# Altium footprint library RUssery.PcbLib: 36 footprints (part 2 of 3)
Each footprint in its own frame and in the unit in brackets; x right, y up, seen from the top. Pads: shape width x height; smd on the part's side, far side on the other; paste and mask are expansions set on the pad; w line width, h text height; cw(c..) or ccw(c..) is an arc to the next point about the centre after c.
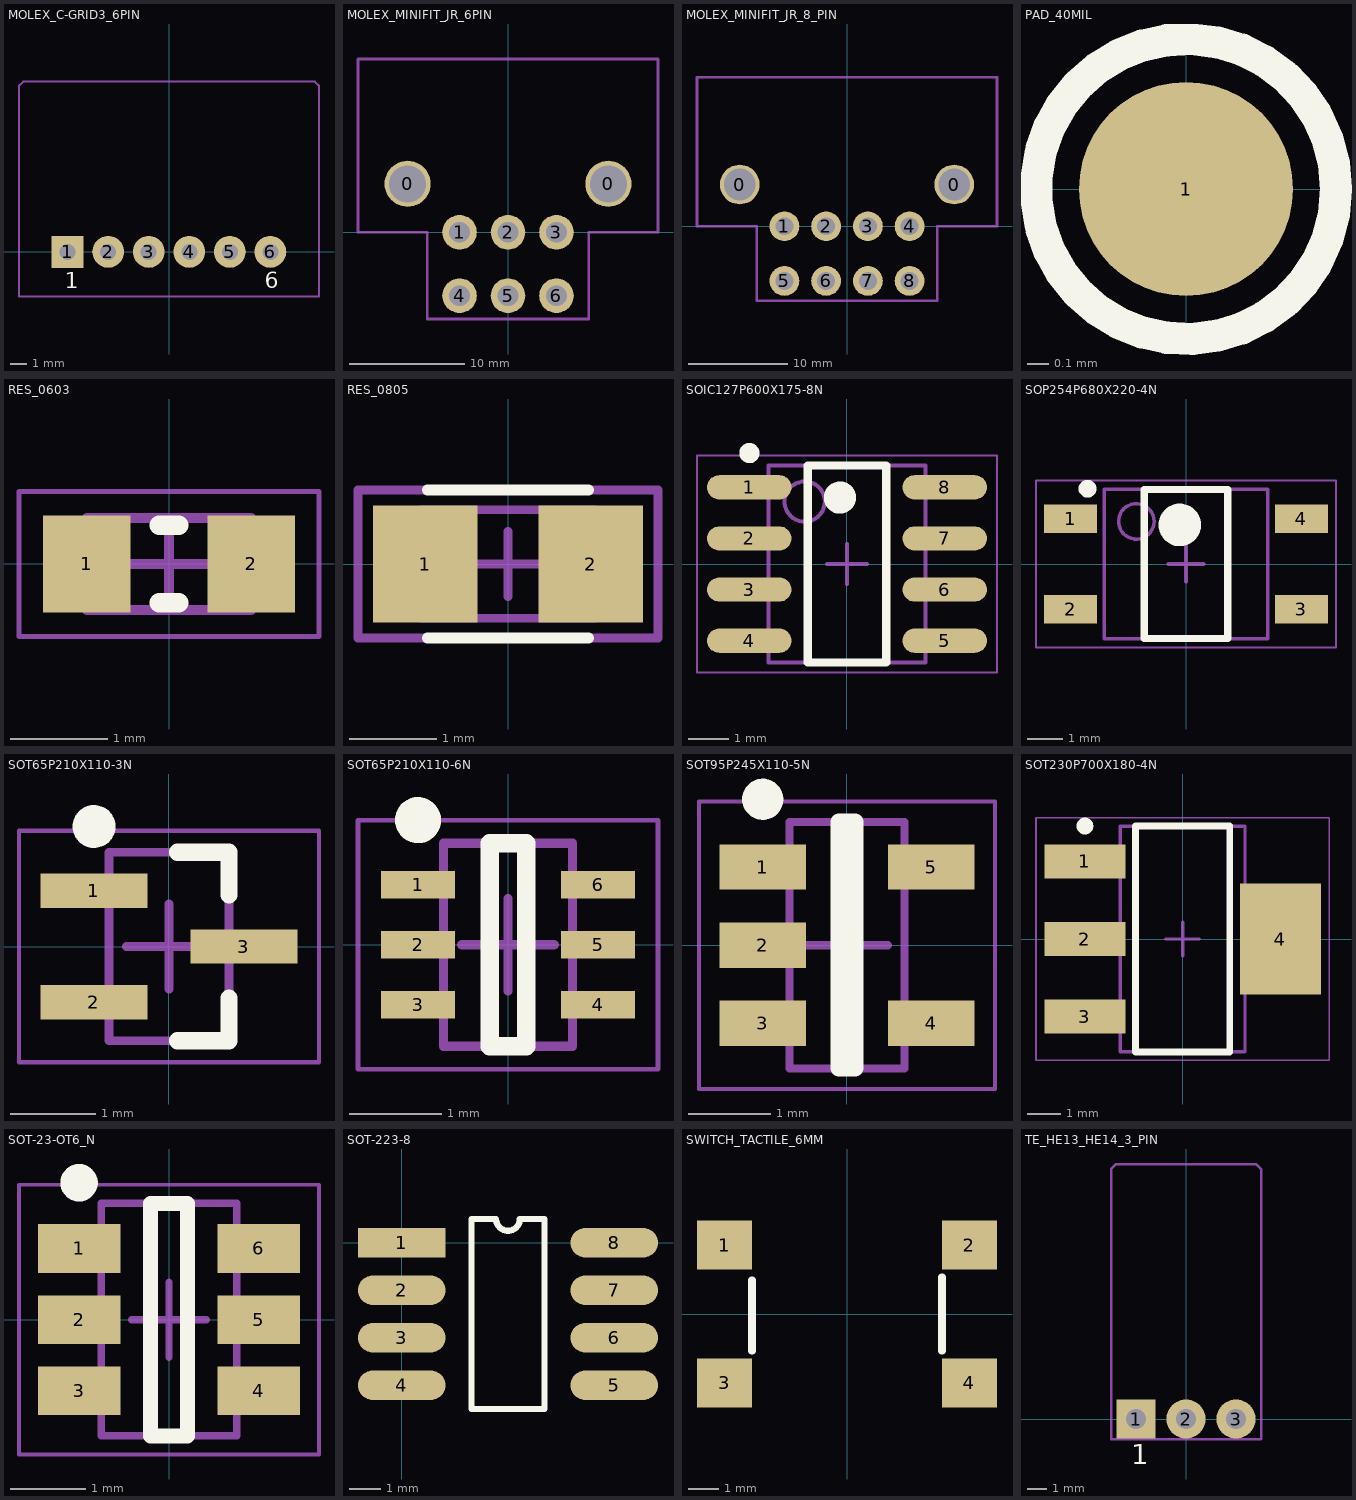
[diagram p1: the footprints below, top view; thin cyan lines are the x and y axes]

## MOLEX_C-GRID3_6PIN [mm]
pads (6):
  rect 2x2 hole 1: 1(-6.35,0)
  round 2 hole 1: 2(-3.81,0) 3(-1.27,0) 4(1.27,0) 5(3.81,0) 6(6.35,0)
Top Overlay:
  text "6" at 6.011,-2.286 h1.02
  text "1" at -6.519,-2.286 h1.02
Mechanical 15:
  lines w0.127: -9.398,-2.794 9.398,-2.794 9.398,10.414 9.144,10.668 -9.144,10.668 -9.398,10.414 -9.398,-2.794
3D body "901362106.stp": height 7.23, standoff -2.88, extent -9.295,-2.635 9.295,10.505

## MOLEX_MINIFIT_JR_6PIN [mm]
pads (8):
  round 4 hole 3.2: 0(-8.7,4.2) 0(8.7,4.2)
  round 3 hole 1.8: 1(-4.2,0) 2(0,0) 3(4.2,0) 4(-4.2,-5.5) 5(0,-5.5) 6(4.2,-5.5)
Mechanical 15:
  lines w0.254: -13,0 -7,0 -7,-7.5 7,-7.5 7,0 13,0 13,15 -13,15 -13,0
3D body "039291068.stp": height 11.02, standoff -3.88, extent -11.9,-5.95 11.9,13.95

## MOLEX_MINIFIT_JR_8_PIN [mm]
pads (10):
  round 4 hole 3.2: 0(-10.8,4.2) 0(10.8,4.2)
  round 3 hole 1.8: 1(-6.3,0) 2(-2.1,0) 3(2.1,0) 4(6.3,0) 5(-6.3,-5.5) 6(-2.1,-5.5) 7(2.1,-5.5) 8(6.3,-5.5)
Mechanical 15:
  lines w0.254: -15.1,0 -9.1,0 -9.1,-7.5 9.1,-7.5 9.1,0 15.1,0 15.1,15 -15.1,15 -15.1,0
3D body "039291088.stp": height 11.02, standoff -3.88, extent -14.025,-5.975 13.975,13.925

## PAD_40MIL [mm]
pads (1):
  round 1 smd paste-4 mask+0.076: 1(0,0)
Top Overlay:
  circle w0.15: c0,0 r0.7

## RES_0603 [mm] "Chip Resistor, 2-Leads, Body 1.60x0.82mm, IPC Medium Density"
height 0.6
pads (2):
  rect 0.9x1 smd: 1(-0.85,0) 2(0.85,0)
Top Overlay:
  lines w0.2: -0.1,-0.4 0.1,-0.4 ; -0.1,0.4 0.1,0.4
Mechanical 13:
  lines w0.1: -0.85,-0.475 -0.85,0.475 0.85,0.475 0.85,-0.475 -0.85,-0.475
Mechanical 15:
  lines w0.05: -1.55,-0.75 -1.55,0.75 1.55,0.75 1.55,-0.75 -1.55,-0.75
  lines w0.1: -0.475,0 0.475,0 ; 0,-0.475 0,0.475
3D body: height 0.6, standoff 0, extent -0.57,-0.475 0.57,0.475
3D body: height 0.6, standoff 0, extent -0.85,-0.475 -0.57,0.475
3D body: height 0.6, standoff 0, extent 0.57,-0.475 0.85,0.475

## RES_0805 [mm]
pads (2):
  rect 1.2x1.35 smd mask+0.076: 1(-0.95,0) 2(0.95,0)
Top Overlay:
  lines w0.127: -0.925,-0.85 0.925,-0.85 ; -0.925,0.85 0.925,0.85
Mechanical 13:
  lines w0.1: -1,-0.625 1,-0.625 1,0.625 -1,0.625 -1,-0.625
Mechanical 15:
  lines w0.102: -0.35,0 0.375,0 ; 0,-0.375 0,0.375 ; -1.725,-0.85 1.725,-0.85 1.725,0.85 -1.725,0.85 -1.725,-0.85
3D body "RESISTOR_0805.step": height 0.58, standoff -0.02, extent -1,-0.625 1,0.625

## SOIC127P600X175-8N [mm]
pads (8):
  oval 2.1x0.6 smd: 1(-2.425,1.905) 2(-2.425,0.635) 3(-2.425,-0.635) 4(-2.425,-1.905) 5(2.425,-1.905) 6(2.425,-0.635) 7(2.425,0.635) 8(2.425,1.905)
Top Overlay:
  circle w0.4: c-0.175,1.65 r0.2
  circle w0.25: c-2.425,2.755 r0.125
  lines w0.2: -0.975,-2.45 0.975,-2.45 0.975,2.45 -0.975,2.45 -0.975,-2.45
Mechanical 13:
  circle w0.1: c-1.05,1.55 r0.5
  lines w0.1: -1.95,-2.45 1.95,-2.45 1.95,2.45 -1.95,2.45 -1.95,-2.45
Mechanical 15:
  lines w0.05: -3.725,-2.7 3.725,-2.7 3.725,2.7 -3.725,2.7 -3.725,-2.7
  lines w0.1: -0.5,0 0.5,0 ; 0,-0.5 0,0.5
3D body: height 1.75, standoff 0.25, extent -1.95,-2.45 1.95,2.45

## SOP254P680X220-4N [mm] "SOP, 4-Leads, Body 3.85x4.40mm, Pitch 2.54mm, IPC Medium Density"
height 2.2
pads (4):
  rect 1.5x0.8 smd: 1(-3.25,1.27) 2(-3.25,-1.27) 3(3.25,-1.27) 4(3.25,1.27)
Top Overlay:
  circle w0.6: c-0.175,1.1 r0.3
  circle w0.25: c-2.775,2.12 r0.125
  lines w0.2: -1.175,-2.1 1.175,-2.1 1.175,2.1 -1.175,2.1 -1.175,-2.1
Mechanical 13:
  circle w0.1: c-1.4,1.2 r0.5
  lines w0.1: -2.3,-2.1 2.3,-2.1 2.3,2.1 -2.3,2.1 -2.3,-2.1
Mechanical 15:
  lines w0.05: -4.225,-2.35 4.225,-2.35 4.225,2.35 -4.225,2.35 -4.225,-2.35
  lines w0.1: -0.5,0 0.5,0 ; 0,-0.5 0,0.5
3D body: height 2.2, standoff 0.1, extent -2.3,-2.1 2.3,2.1

## SOT65P210X110-3N [mm] "SOT23, 3-Leads, Body 2.00x2.10mm, Pitch 0.65mm, IPC Medium Density"
height 1.1
pads (3):
  rect 1.25x0.4 smd: 1(-0.875,0.65) 2(-0.875,-0.65) 3(0.875,0)
Top Overlay:
  circle w0.25: c-0.875,1.4 r0.125
  lines w0.2: 0.1,-1.1 0.7,-1.1 0.7,-0.6 ; 0.1,1.1 0.7,1.1 0.7,0.6
Mechanical 13:
  lines w0.1: -0.7,-1.1 0.7,-1.1 0.7,1.1 -0.7,1.1 -0.7,-1.1
Mechanical 15:
  lines w0.05: -1.75,-1.35 1.75,-1.35 1.75,1.35 -1.75,1.35 -1.75,-1.35
  lines w0.1: -0.5,0 0.5,0 ; 0,-0.5 0,0.5
3D body: height 1.1, standoff 0.1, extent -0.7,-1.1 0.7,1.1

## SOT65P210X110-6N [mm] "SOT23, 6-Leads, Body 2.00x2.10mm, Pitch 0.65mm, IPC Medium Density"
height 1.1
pads (6):
  rect 0.8x0.3 smd: 1(-0.975,0.65) 2(-0.975,0) 3(-0.975,-0.65) 4(0.975,-0.65) 5(0.975,0) 6(0.975,0.65)
Top Overlay:
  circle w0.25: c-0.975,1.35 r0.125
  lines w0.2: -0.2,-1.1 -0.2,1.1 0.2,1.1 0.2,-1.1 -0.2,-1.1
Mechanical 13:
  lines w0.1: -0.7,-1.1 0.7,-1.1 0.7,1.1 -0.7,1.1 -0.7,-1.1
Mechanical 15:
  lines w0.05: -1.625,-1.35 1.625,-1.35 1.625,1.35 -1.625,1.35 -1.625,-1.35
  lines w0.1: -0.5,0 0.5,0 ; 0,-0.5 0,0.5
3D body: height 1.1, standoff 0.1, extent -0.7,-1.1 0.7,1.1

## SOT95P245X110-5N [mm]
pads (5):
  rect 1.05x0.55 smd: 1(-1.025,0.95) 2(-1.025,0) 3(-1.025,-0.95) 4(1.025,-0.95) 5(1.025,0.95)
Top Overlay:
  circle w0.25: c-1.025,1.775 r0.125
  lines w0.2: -0.1,-1.5 -0.1,1.5 0.1,1.5 0.1,-1.5 -0.1,-1.5
Mechanical 13:
  lines w0.1: -0.7,-1.5 0.7,-1.5 0.7,1.5 -0.7,1.5 -0.7,-1.5
Mechanical 15:
  lines w0.05: -1.8,-1.75 1.8,-1.75 1.8,1.75 -1.8,1.75 -1.8,-1.75
  lines w0.1: -0.5,0 0.5,0 ; 0,-0.5 0,0.5
3D body: height 1.1, standoff 0.05, extent -0.7,-1.5 0.7,1.5

## SOT230P700X180-4N [mm] "SOT223, 4-Leads, Body 6.50x7.00mm (avg), Pitch 2.30mm, IPC Medium Density"
height 1.8
pads (4):
  rect 2.4x1 smd: 1(-2.9,2.3) 2(-2.9,0) 3(-2.9,-2.3)
  rect 2.4x3.3 smd: 4(2.9,0)
Top Overlay:
  circle w0.25: c-2.9,3.35 r0.125
  lines w0.2: -1.4,-3.35 1.4,-3.35 1.4,3.35 -1.4,3.35 -1.4,-3.35
Mechanical 13:
  lines w0.1: -1.85,-3.35 1.85,-3.35 1.85,3.35 -1.85,3.35 -1.85,-3.35
Mechanical 15:
  lines w0.05: -4.35,-3.6 4.35,-3.6 4.35,3.6 -4.35,3.6 -4.35,-3.6
  lines w0.1: -0.5,0 0.5,0 ; 0,-0.5 0,0.5
3D body: height 1.8, standoff 0.02, extent -1.85,-3.35 1.85,3.35

## SOT-23-OT6_N [mm] "SOT23, 6-Leads, Body 2.9x1.7mm, Pitch 0.95mm, Lead Span 2.8mm, IPC Medium Density"
height 1.45
pads (6):
  rect 1.1x0.65 smd: 1(-1.2,0.95) 2(-1.2,0) 3(-1.2,-0.95) 4(1.2,-0.95) 5(1.2,0) 6(1.2,0.95)
Top Overlay:
  circle w0.25: c-1.2,1.825 r0.125
  lines w0.2: -0.25,-1.55 0.25,-1.55 0.25,1.55 -0.25,1.55 -0.25,-1.55
Mechanical 13:
  lines w0.1: -0.9,-1.55 -0.9,1.55 0.9,1.55 0.9,-1.55 -0.9,-1.55
Mechanical 15:
  lines w0.05: -2,-1.8 -2,1.8 2,1.8 2,-1.8 -2,-1.8
  lines w0.1: -0.5,0 0.5,0 ; 0,-0.5 0,0.5
3D body: height 1.45, standoff 0, extent -0.9,-1.55 0.9,1.55

## SOT-223-8 [mm]
pads (8):
  rect 2.8x0.95 smd: 1(0,0)
  oval 2.8x0.95 smd: 2(0,-1.52) 3(0,-3.04) 4(0,-4.56) 5(6.8,-4.56) 6(6.8,-3.04) 7(6.8,-1.52) 8(6.8,0)
Top Overlay:
  lines w0.2: 2.235,-5.32 4.565,-5.32 4.565,0.76 3.78,0.76 cw(c3.4,0.76) 3.02,0.76 2.235,0.76 2.235,-5.32
3D body "SOT-223-8-2.step": height 1.8, standoff 0, extent -0.1,-5.55 6.9,0.95

## SWITCH_TACTILE_6MM [mm] "Switch, Pushbutton, Tactile, 6mm, Surface Mount"
height 4.3
pads (4):
  rect 1.8x1.6 smd: 1(-4,2.25) 2(4,2.25) 3(-4,-2.25) 4(4,-2.25)
Top Overlay:
  lines w0.254: -3.1,-1.2 -3.1,1.1 ; 3.1,-1.2 3.1,1.2
3D body "PTS645SK50SMTR92LFS.stp": height 5, standoff 0, extent -4.5,-3 4.5,3
3D body: height 0.25, standoff 0, extent 0,0 0,0

## TE_HE13_HE14_3_PIN [mm]
pads (3):
  rect 2x2 hole 1: 1(-2.54,0)
  round 2 hole 1: 2(0,0) 3(2.54,0)
Top Overlay:
  text "1" at -2.794,-2.286 h1.02
Mechanical 15:
  lines w0.127: -3.81,-1.016 -3.81,-0.991 -3.81,12.7 -3.556,12.954 3.556,12.954 3.81,12.7 3.81,-0.991 3.785,-1.016 -3.81,-1.016
3D body "c-281698-3-g-3d.stp": height 5.1, standoff -2.88, extent -3.785,-0.279 3.835,12.838